# EAGLE library part LORA1276 (library Lora1276V2NiceRF)
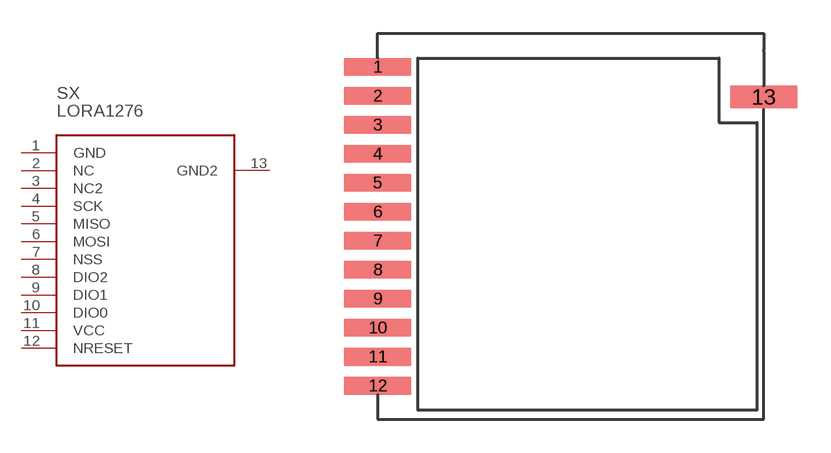
[diagram p0: symbol with the pads of PCBV2; footprint PCBV2]

Designator prefix SX

## LORA1276  [PCBV2]
1  GND
2  NC
3  NC2
4  SCK
5  MISO
6  MOSI
7  NSS
8  DIO2
9  DIO1
10  DIO0
11  VCC
12  NRESET
13  GND2

## Footprint PCBV2 (pad centres in mm)
smd 3 x 0.8: 1 1.5,-0.4; 2 1.5,-1.7; 3 1.5,-3; 4 1.5,-4.3; 5 1.5,-5.6; 6 1.5,-6.9; 7 1.5,-8.2; 8 1.5,-9.5; 9 1.5,-10.8; 10 1.5,-12.1; 11 1.5,-13.4; 12 1.5,-14.7
smd 3 x 1: 13 18.8,-1.75